# Altium footprint library LEDMatrix.PcbLib: 1 footprints
Each footprint in its own frame and in the unit in brackets; x right, y up, seen from the top. Pads: shape width x height; smd on the part's side, far side on the other; paste and mask are expansions set on the pad; w line width, h text height; cw(c..) or ccw(c..) is an arc to the next point about the centre after c.
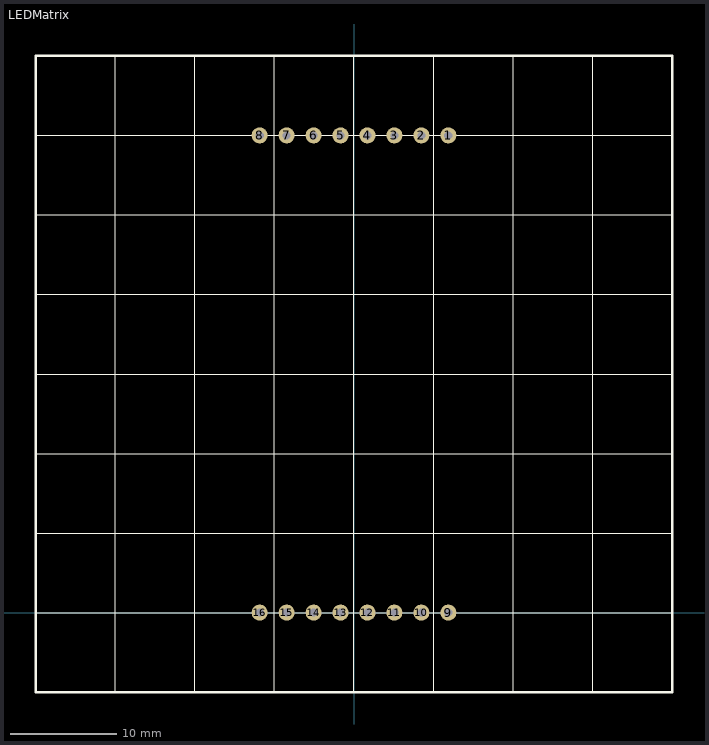
[diagram p0: the footprint, top view; thin cyan lines are the x and y axes]

## LEDMatrix [mil] "LED Matrix 8x8 weiss (MUFF)"
height 393.7
pads (16):
  round 60 hole 30: 1(350,1771.65) 2(250,1771.65) 3(150,1771.65) 4(50,1771.65) 5(-50,1771.65) 6(-150,1771.65) 7(-250,1771.65) 8(-350,1771.65) 9(350,0) 10(250,0) 11(150,0) 12(50,0) 13(-50,0) 14(-150,0) 15(-250,0) 16(-350,0)
Top Overlay:
  lines w1: -1181.1,0 1181.1,0 ; -1181.1,295.28 1181.1,295.28 ; -1181.1,590.55 1181.1,590.55 ; -1181.1,885.83 1181.1,885.83 ; -1181.1,1181.1 1181.1,1181.1 ; -1181.1,1476.38 1181.1,1476.38 ; -1181.1,1771.65 1181.1,1771.65 ; -885.83,-295.28 -885.83,2066.93 ; -590.55,-295.28 -590.55,2066.93 ; -295.28,-295.28 -295.28,2066.93 ; 0,-295.28 0,2066.93 ; 295.28,-295.28 295.28,2066.93 ; 590.55,-295.28 590.55,2066.93 ; 885.83,-295.28 885.83,2066.93
  lines w10: -1181.1,-295.28 -1181.1,2066.93 1181.1,2066.93 1181.1,-295.28 -1181.1,-295.28
Mechanical 1:
  text "LED Matrix 8x8 white" at -1141.73,1968.5 h60